# Altium footprint library WR-TNC.PcbLib: 5 footprints
Each footprint in its own frame and in the unit in brackets; x right, y up, seen from the top. Pads: shape width x height; smd on the part's side, far side on the other; paste and mask are expansions set on the pad; w line width, h text height; cw(c..) or ccw(c..) is an arc to the next point about the centre after c.
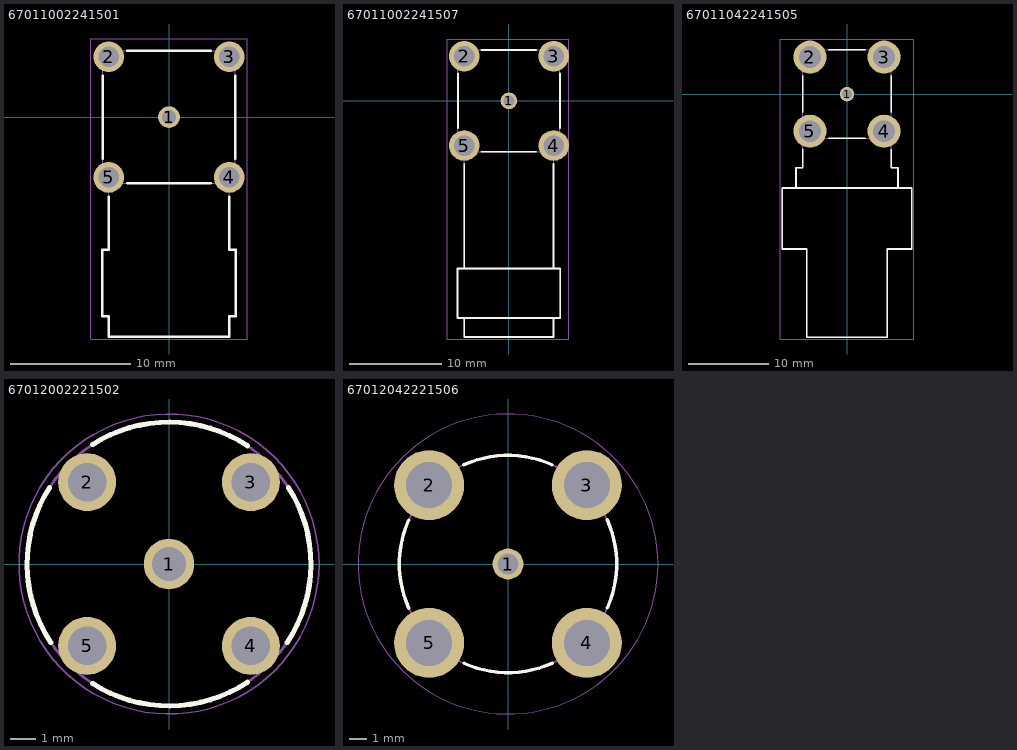
[diagram p0: the footprints below, top view; thin cyan lines are the x and y axes]

## 67011002241501 [mm]
height 14
pads (5):
  round 1.8 hole 1.2: 1(0,0)
  round 2.55 hole 1.7: 2(-5,5) 3(5,5) 4(5,-5) 5(-5,-5)
Top Overlay:
  lines w0.2: -5.5,-3.45 -5.5,3.45 ; -5,-6.6 -5,-11 -5.55,-11 -5.55,-16.5 -5,-16.5 -5,-18.2 5,-18.2 5,-16.5 5.55,-16.5 5.55,-11 5,-11 5,-6.6 ; -3.45,-5.5 3.45,-5.5 ; -3.45,5.5 3.45,5.5 ; 5.5,-3.45 5.5,3.45
Top Assembly:
  lines w0.1: -5,-5.5 -5,-11 -5.55,-11 -5.55,-16.5 -5,-16.5 -5,-18.2 5,-18.2 5,-16.5 5.55,-16.5 5.55,-11 5,-11 5,-5.5 ; -5.5,-5.5 -5.5,5.5 5.5,5.5 5.5,-5.5 -5.5,-5.5
Top Designator:
  text ".Designator" at -3.647,-0.357 h1
Top 3D Body:
  lines w0.1: -5,-5.5 -5,-11 -5.55,-11 -5.55,-16.5 -5,-16.5 -5,-18.2 5,-18.2 5,-16.5 5.55,-16.5 5.55,-11 5,-11 5,-5.5 ; -5.5,-5.5 -5.5,5.5 5.5,5.5 5.5,-5.5 -5.5,-5.5
Top Courtyard:
  lines w0.05: -6.475,-18.4 -6.475,6.475 6.475,6.475 6.475,-18.4 -6.475,-18.4
Top Component Center:
  lines w0.1: -0.5,0 0.5,0 ; 0,-0.5 0,0.5
3D body "67011002241501.stp": height 14.14, standoff -3.4, extent -5.54,-18.2 5.54,5.5

## 67011002241507 [mm] "TNC PCB THT Jack"
height 14
pads (5):
  round 1.8 hole 1.2: 1(0,0)
  round 3.3 hole 2.21: 2(-4.825,4.825) 3(4.825,4.825) 4(4.825,-4.825) 5(-4.825,-4.825)
Top Overlay:
  lines w0.2: -5.5,-2.95 -5.5,2.95 ; -4.825,-23.46 -4.825,-25.51 4.825,-25.51 4.825,-23.46 ; -4.825,-18.1 -4.825,-6.8 ; -2.95,-5.5 2.95,-5.5 ; -2.95,5.5 2.95,5.5 ; 4.825,-18.1 4.825,-6.8 ; 5.5,-2.95 5.5,2.95 ; -5.54,-23.46 -5.54,-18.1 5.54,-18.1 5.54,-23.46 -5.54,-23.46
Top Assembly:
  lines w0.1: -4.825,-23.46 -4.825,-25.51 4.825,-25.51 4.825,-23.46 ; -4.825,-18.1 -4.825,-5.5 ; 4.825,-18.1 4.825,-5.5 ; -5.54,-23.46 -5.54,-18.1 5.54,-18.1 5.54,-23.46 -5.54,-23.46 ; -5.5,-5.5 5.5,-5.5 5.5,5.5 -5.5,5.5 -5.5,-5.5
Top Designator:
  text ".Designator" at -3.647,-0.357 h1
Top 3D Body:
  lines w0.1: -4.825,-23.46 -4.825,-25.51 4.825,-25.51 4.825,-23.46 ; -4.825,-18.1 -4.825,-5.5 ; 4.825,-18.1 4.825,-5.5 ; -5.54,-23.46 -5.54,-18.1 5.54,-18.1 5.54,-23.46 -5.54,-23.46 ; -5.5,-5.5 5.5,-5.5 5.5,5.5 -5.5,5.5 -5.5,-5.5
Top Courtyard:
  lines w0.05: -6.675,-25.71 -6.675,6.675 6.475,6.675 6.475,-25.71 -6.675,-25.71
Top Component Center:
  lines w0.1: -0.5,0 0.5,0 ; 0,-0.5 0,0.5
3D body "67011002241507.stp": height 15.14, standoff -3.4, extent -5.54,-25.5 5.54,5.5

## 67011042241505 [mm] "TNC PCB THT Jack"
height 15.3
pads (5):
  round 1.8 hole 1.2: 1(0,0)
  round 4.1 hole 2.7: 2(-4.61,4.61) 3(4.61,4.61) 4(4.61,-4.61) 5(-4.61,-4.61)
Top Overlay:
  lines w0.2: -6.35,-11.68 -6.35,-9.18 -5.5,-9.18 -5.5,-6.88 ; -5.5,-2.25 -5.5,2.25 ; -2.25,-5.5 2.25,-5.5 ; -2.25,5.5 2.25,5.5 ; 5.5,-6.88 5.5,-9.18 6.35,-9.18 6.35,-11.68 ; 5.5,-2.25 5.5,2.25 ; -8.083,-19.28 -8.083,-11.68 8.083,-11.68 8.083,-19.28 5,-19.28 5,-30.28 -5,-30.28 -5,-19.28 -8.083,-19.28
Top Assembly:
  lines w0.1: -6.35,-11.68 -6.35,-9.18 -5.5,-9.18 -5.5,5.5 5.5,5.5 5.5,-9.18 6.35,-9.18 6.35,-11.68 ; -5.5,-5.5 5.5,-5.5 ; -8.083,-19.28 -8.083,-11.68 8.083,-11.68 8.083,-19.28 5,-19.28 5,-30.28 -5,-30.28 -5,-19.28 -8.083,-19.28
Top Designator:
  text ".Designator" at -3.647,-0.357 h1
Top 3D Body:
  lines w0.1: -6.35,-11.68 -6.35,-9.18 -5.5,-9.18 -5.5,5.5 5.5,5.5 5.5,-9.18 6.35,-9.18 6.35,-11.68 ; -5.5,-5.5 5.5,-5.5 ; -8.083,-19.28 -8.083,-11.68 8.083,-11.68 8.083,-19.28 5,-19.28 5,-30.28 -5,-30.28 -5,-19.28 -8.083,-19.28
Top Courtyard:
  lines w0.05: -8.283,-30.48 8.283,-30.48 8.283,6.86 -8.283,6.86 -8.283,-30.48
Top Component Center:
  lines w0.1: -0.5,0 0.5,0 ; 0,-0.5 0,0.5
3D body "67011042241505.stp": height 17.85, standoff -3.4, extent -8.083,-30.28 8.083,5.5

## 67012002221502 [mm] "TNC PCB THT Jack"
height 13.7
pads (5):
  round 1.95 hole 1.3: 1(0,0)
  round 2.25 hole 1.5: 2(-3.175,3.175) 3(3.175,3.175) 4(3.175,-3.175) 5(-3.175,-3.175)
Top Overlay:
  lines w0.2: -4.63,2.969 ccw(c0,0) -4.584,-3.039 ; -2.969,-4.63 ccw(c0,0) 3.039,-4.584 ; -2.969,4.63 cw(c0,0) 3.039,4.584 ; 4.584,-3.039 ccw(c0,0) 4.63,2.969
Top Assembly:
  circle w0.1: c0,0 r5.5
Top Designator:
  text ".Designator" at -3.647,-0.357 h1
Top 3D Body:
  circle w0.1: c0,0 r5.5
Top Courtyard:
  circle w0.05: c0,0 r5.815
Top Component Center:
  lines w0.1: -0.5,0 0.5,0 ; 0,-0.5 0,0.5
3D body "67012002221502.stp": height 13.81, standoff -3.39, extent -7.809,-7.747 7.747,7.809

## 67012042221506 [mm] "TNC PCB THT Jack"
height 23.9
pads (5):
  round 1.8 hole 1.2: 1(0,0)
  round 4.1 hole 2.7: 2(-4.61,4.61) 3(4.61,4.61) 4(4.61,-4.61) 5(-4.61,-4.61)
Top Overlay:
  lines w0.2: -5.813,2.556 ccw(c0,0) -5.801,-2.584 ; -2.584,5.801 cw(c0,0) 2.556,5.813 ; -2.556,-5.813 ccw(c0,0) 2.584,-5.801 ; 5.801,2.584 cw(c0,0) 5.813,-2.556
Top Assembly:
  circle w0.1: c0,0 r6.35
Top Designator:
  text ".Designator" at -3.647,-0.357 h1
Top 3D Body:
  circle w0.1: c0,0 r6.35
Top Courtyard:
  circle w0.05: c0,0 r8.77
Top Component Center:
  lines w0.1: -0.5,0 0.5,0 ; 0,-0.5 0,0.5
3D body "67012042221506.stp": height 23.95, standoff -3.45, extent -8.083,-7.95 8.083,7.95